# EAGLE library part BQ27441DRZT-G1A (library bq27441drzt-g1a)
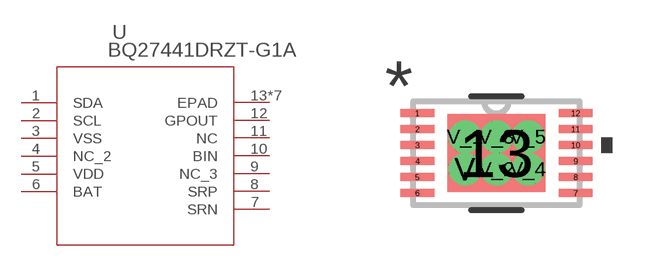
[diagram p0: symbol with the pads of DRZ12_1P95X2P45; footprint DRZ12_1P95X2P45]

Designator prefix U

## BQ27441DRZT-G1A (MANUFACTURER_PART_NUMBER: BQ27441DRZTG1A; VENDOR: Texas Instruments)  [DRZ12_1P95X2P45]
1  SDA
2  SCL
3  VSS  pwr
4  NC_2  nc
5  VDD  pwr
6  BAT  in
7  SRN  in
8  SRP  in
9  NC_3  nc
10  BIN  in
11  NC  nc
12  GPOUT  out
13  EPAD  pas
V  EPAD  pas
V_1  EPAD  pas
V_2  EPAD  pas
V_3  EPAD  pas
V_4  EPAD  pas
V_5  EPAD  pas

## Footprint DRZ12_1P95X2P45 (pad centres in mm)
smd 0.85 x 0.2: 1 -1.981,1; 2 -1.981,0.6; 3 -1.981,0.2; 4 -1.981,-0.2; 5 -1.981,-0.6; 6 -1.981,-1; 7 1.981,-1; 8 1.981,-0.6; 9 1.981,-0.2; 10 1.981,0.2; 11 1.981,0.6; 12 1.981,1
smd 2.45 x 1.95: 13 0,0
drill 0.305 pad 0.508: V -0.787,-0.406; V_1 -0.787,0.406; V_2 0,-0.406; V_3 0,0.406; V_4 0.787,-0.406; V_5 0.787,0.406